# Altium footprint library UZohmADC.PcbLib: 23 footprints (part 2 of 2)
Each footprint in its own frame and in the unit in brackets; x right, y up, seen from the top. Pads: shape width x height; smd on the part's side, far side on the other; paste and mask are expansions set on the pad; w line width, h text height; cw(c..) or ccw(c..) is an arc to the next point about the centre after c.
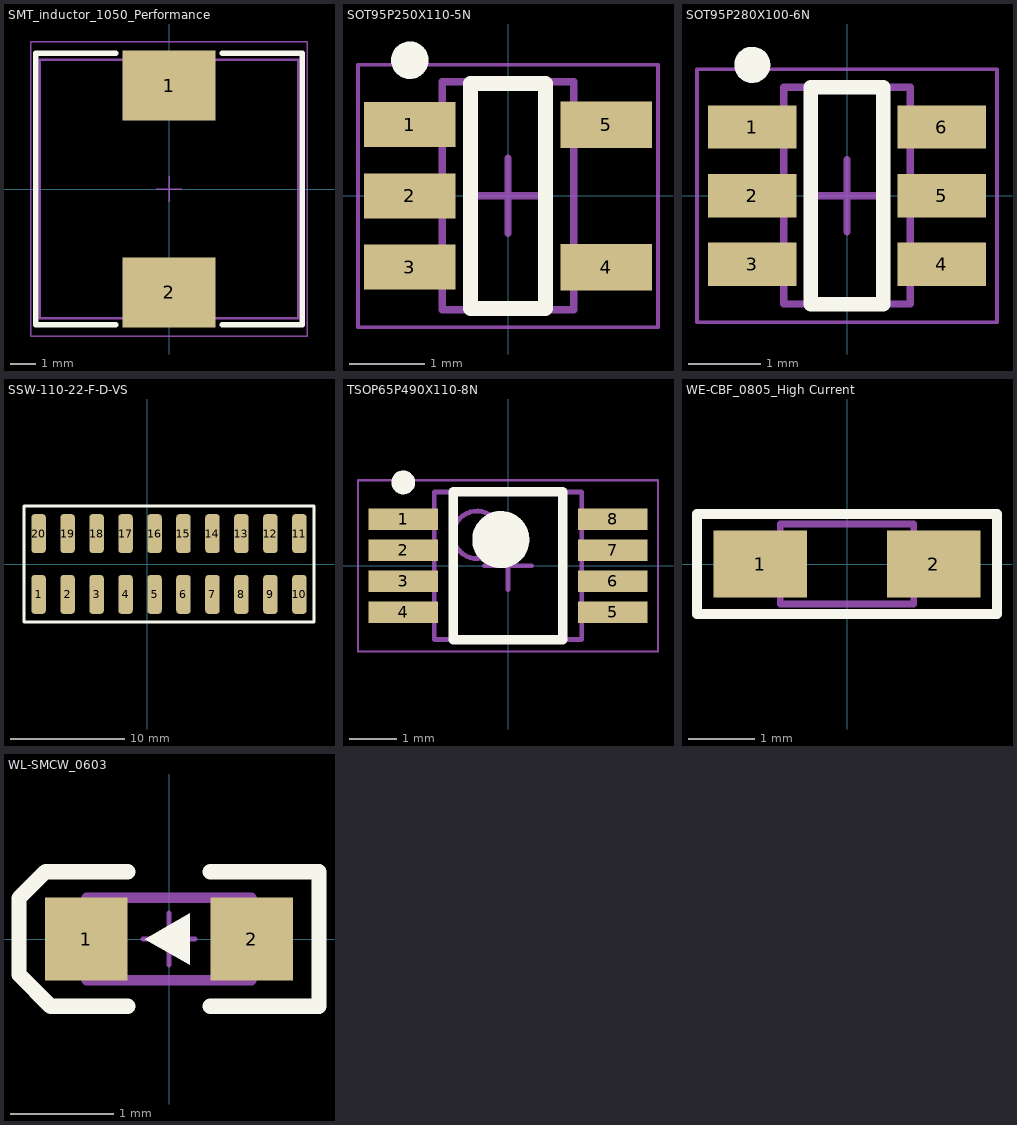
[diagram p1: the footprints below, top view; thin cyan lines are the x and y axes]

## SMT_inductor_1050_Performance [mm] "SMD Shielded Power Inductor, 2-leads, body 10.3x10.5mm"
height 5
pads (2):
  rect 3.6x2.7 smd: 1(0,4) 2(0,-4)
Top Overlay:
  lines w0.2: -2.05,-5.25 -5.15,-5.25 -5.15,5.25 -2.05,5.25 ; 2.05,-5.25 5.15,-5.25 5.15,5.25 2.05,5.25
Top Assembly:
  lines w0.1: -5,-5 5,-5 5,5 -5,5 -5,-5
  text ".Designator" at -3.624,-0.557 h2
Mechanical 15:
  lines w0.05: -0.5,0 0.5,0 ; 0,-0.5 0,0.5 ; -5.35,-5.7 5.35,-5.7 5.35,5.7 -5.35,5.7 -5.35,-5.7
3D body "7447714xx.stp": height 4.79, standoff -0.01, extent -5,-5 5,5

## SOT95P250X110-5N [mm] "SOT23, 5-Leads, Body 2,92x2,50mm, Pitch 0,95mm, IPC Medium Density"
height 1.1
pads (5):
  rect 1.22x0.6 smd: 1(-1.31,0.95) 2(-1.31,0) 3(-1.31,-0.95)
  rect 1.22x0.62 smd: 4(1.31,-0.95) 5(1.31,0.95)
Top Overlay:
  circle w0.25: c-1.31,1.81 r0.125
  lines w0.2: -0.5,-1.5 0.5,-1.5 0.5,1.5 -0.5,1.5 -0.5,-1.5
Top Assembly:
  lines w0.1: -0.875,-1.52 0.875,-1.52 0.875,1.52 -0.875,1.52 -0.875,-1.52
  text ".Designator" at 0.112,-1.224 h0.64
Mechanical 15:
  lines w0.05: -2,-1.75 -2,1.75 2,1.75 2,-1.75 -2,-1.75
  lines w0.1: -0.5,0 0.5,0 ; 0,-0.5 0,0.5
3D body: height 1.1, standoff 0.01, extent -0.875,-1.52 0.875,1.52

## SOT95P280X100-6N [mm] "SOT23, 6-Leads, Body 2,90x2,80mm, Pitch 0,95mm, IPC Medium Density"
height 1
pads (6):
  rect 1.22x0.6 smd: 1(-1.31,0.95) 2(-1.31,0) 3(-1.31,-0.95) 4(1.31,-0.95) 5(1.31,0) 6(1.31,0.95)
Top Overlay:
  circle w0.25: c-1.31,1.81 r0.125
  lines w0.2: -0.5,-1.5 -0.5,1.5 0.5,1.5 0.5,-1.5 -0.5,-1.5
Top Assembly:
  lines w0.1: -0.875,-1.5 0.875,-1.5 0.875,1.5 -0.875,1.5 -0.875,-1.5
  text ".Designator" at 0.112,-1.224 h0.64
Mechanical 15:
  lines w0.05: -2.075,-1.75 2.075,-1.75 2.075,1.75 -2.075,1.75 -2.075,-1.75
  lines w0.1: -0.5,0 0.5,0 ; 0,-0.5 0,0.5
3D body: height 1, standoff 0.01, extent -0.875,-1.5 0.875,1.5

## SSW-110-22-F-D-VS [mm]
height 8.509
pads (20):
  rrect50% 1.27x3.43 smd: 1(-9.525,-2.667) 2(-6.985,-2.667) 3(-4.445,-2.667) 4(-1.905,-2.667) 5(0.635,-2.667) 6(3.175,-2.667) 7(5.715,-2.667) 8(8.255,-2.667) 9(10.795,-2.667) 10(13.335,-2.667) 11(13.335,2.667) 12(10.795,2.667) 13(8.255,2.667) 14(5.715,2.667) 15(3.175,2.667) 16(0.635,2.667) 17(-1.905,2.667) 18(-4.445,2.667) 19(-6.985,2.667) 20(-9.525,2.667)
Top Overlay:
  lines w0.254: -10.795,-5.08 -10.795,5.08 14.605,5.08 14.605,-5.08 -10.795,-5.08
3D body: height 0.25, standoff 0, extent 1.905,0 1.905,0
3D body: height 0.25, standoff 0, extent 0.127,-4.699 0.127,-4.699
3D body "SSW-110-22-F-D-VS.stp": height 9.78, standoff 0, extent -11.049,-3.937 14.859,3.937

## TSOP65P490X110-8N [mm] "TSOP, 8-Leads, Body 3,00x3,00mm, Pitch 0,65mm, IPC Medium Density"
height 1.1
pads (8):
  rect 1.45x0.45 smd: 1(-2.2,0.975) 2(-2.2,0.325) 3(-2.2,-0.325) 4(-2.2,-0.975) 5(2.2,-0.975) 6(2.2,-0.325) 7(2.2,0.325) 8(2.2,0.975)
Top Overlay:
  circle w0.25: c-2.2,1.75 r0.125
  circle w0.6: c-0.15,0.55 r0.3
  lines w0.2: -1.15,-1.55 -1.15,1.55 1.15,1.55 1.15,-1.55 -1.15,-1.55
Top Assembly:
  circle w0.1: c-0.65,0.65 r0.5
  lines w0.1: -1.55,-1.55 -1.55,1.55 1.55,1.55 1.55,-1.55 -1.55,-1.55
  text ".Designator" at -1.324,-0.912 h0.64
Mechanical 15:
  lines w0.05: -3.15,-1.8 -3.15,1.8 3.15,1.8 3.15,-1.8 -3.15,-1.8
  lines w0.1: -0.5,0 0.5,0 ; 0,-0.5 0,0.5
3D body: height 1.1, standoff 0.1, extent -1.55,-1.55 1.55,1.55

## WE-CBF_0805_High Current [mm] "SMD EMI Suppression Ferrite  Bead, body 2.0mmx1.2mm"
height 0.9
pads (2):
  rect 1.4x1 smd: 1(-1.3,0) 2(1.3,0)
Top Overlay:
  lines w0.15: -2.25,-0.75 -2.25,0.75 2.25,0.75 2.25,-0.75 -2.25,-0.75
Top Assembly:
  lines w0.15: -2.25,-0.75 2.25,-0.75 2.25,0.75 -2.25,0.75 -2.25,-0.75
  text ".Designator" at -1.949,-0.187 h0.64
Mechanical 15:
  lines w0.1: -1,-0.6 1,-0.6 1,0.6 -1,0.6 -1,-0.6
3D body "WE-CBF_0805_CBF.stp": height 0.93, standoff 0.03, extent -1,-0.6 1,0.6

## WL-SMCW_0603 [mm] "SMD Mono-color Chip LED, body 1.6x0.8mm"
height 0.7
pads (2):
  rect 0.8x0.8 smd: 1(-0.8,0) 2(0.8,0)
Top Overlay:
  region: -0.233,0 0.2,-0.25 0.2,0.25
  lines w0.15: -0.4,-0.654 -1.146,-0.654 -1.454,-0.346 -1.454,0.396 -1.196,0.654 -0.4,0.654 ; 0.4,-0.654 1.454,-0.654 1.454,0.654 0.4,0.654
Top Assembly:
  lines w0.1: -0.8,-0.4 0.8,-0.4 0.8,0.4 -0.8,0.4 -0.8,-0.4
  text ".Designator" at 1.076,-0.012 h0.64
Mechanical 15:
  lines w0.05: -0.25,0 0.25,0 ; 0,-0.25 0,0.25
3D body "WL-SMCW_0603_LED.stp": height 0.7, standoff 0, extent -0.8,-0.4 0.8,0.4